# Altium schematic symbol library 61301221121.SchLib: 2 symbols
Pins are listed as number, name and electrical type; pins without a type are passive.

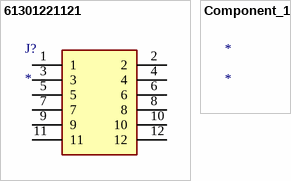
[diagram p0: symbols 61301221121 to Component_1]

## 61301221121
designator J?
Connector; Manufacturer_Name: Wurth Elektronik; Manufacturer_Part_Number: 61301221121; Datasheet Link: https://componentsearchengine.com//61301221121.pdf; Height: 8.89mm; Mouser2 Part Number: 710-61301221121; Mouser2 Price/Stock: https://www.mouser.com/Search/Refine.aspx?Keyword=710-61301221121
footprint HDRV12W64P254_2X6_1524X508X889P
pins: 1, 2, 3, 4, 5, 6, 7, 8, 9, 10, 11, 12

## Component_1
designator *